# Altium schematic symbol library Conn-IEC-C8.Schlib: 1 symbol
Pins are listed as number, name and electrical type; pins without a type are passive.

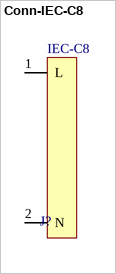
[diagram p0: symbol Conn-IEC-C8]

## Conn-IEC-C8
designator J?
footprint Conn-IEC-C8
pins: 1 L, 2 N
text: IEC-C8